# Altium footprint library 28Pins_PCB_Lib.PcbLib: 26 footprints (part 1 of 2)
Each footprint in its own frame and in the unit in brackets; x right, y up, seen from the top. Pads: shape width x height; smd on the part's side, far side on the other; paste and mask are expansions set on the pad; w line width, h text height; cw(c..) or ccw(c..) is an arc to the next point about the centre after c.
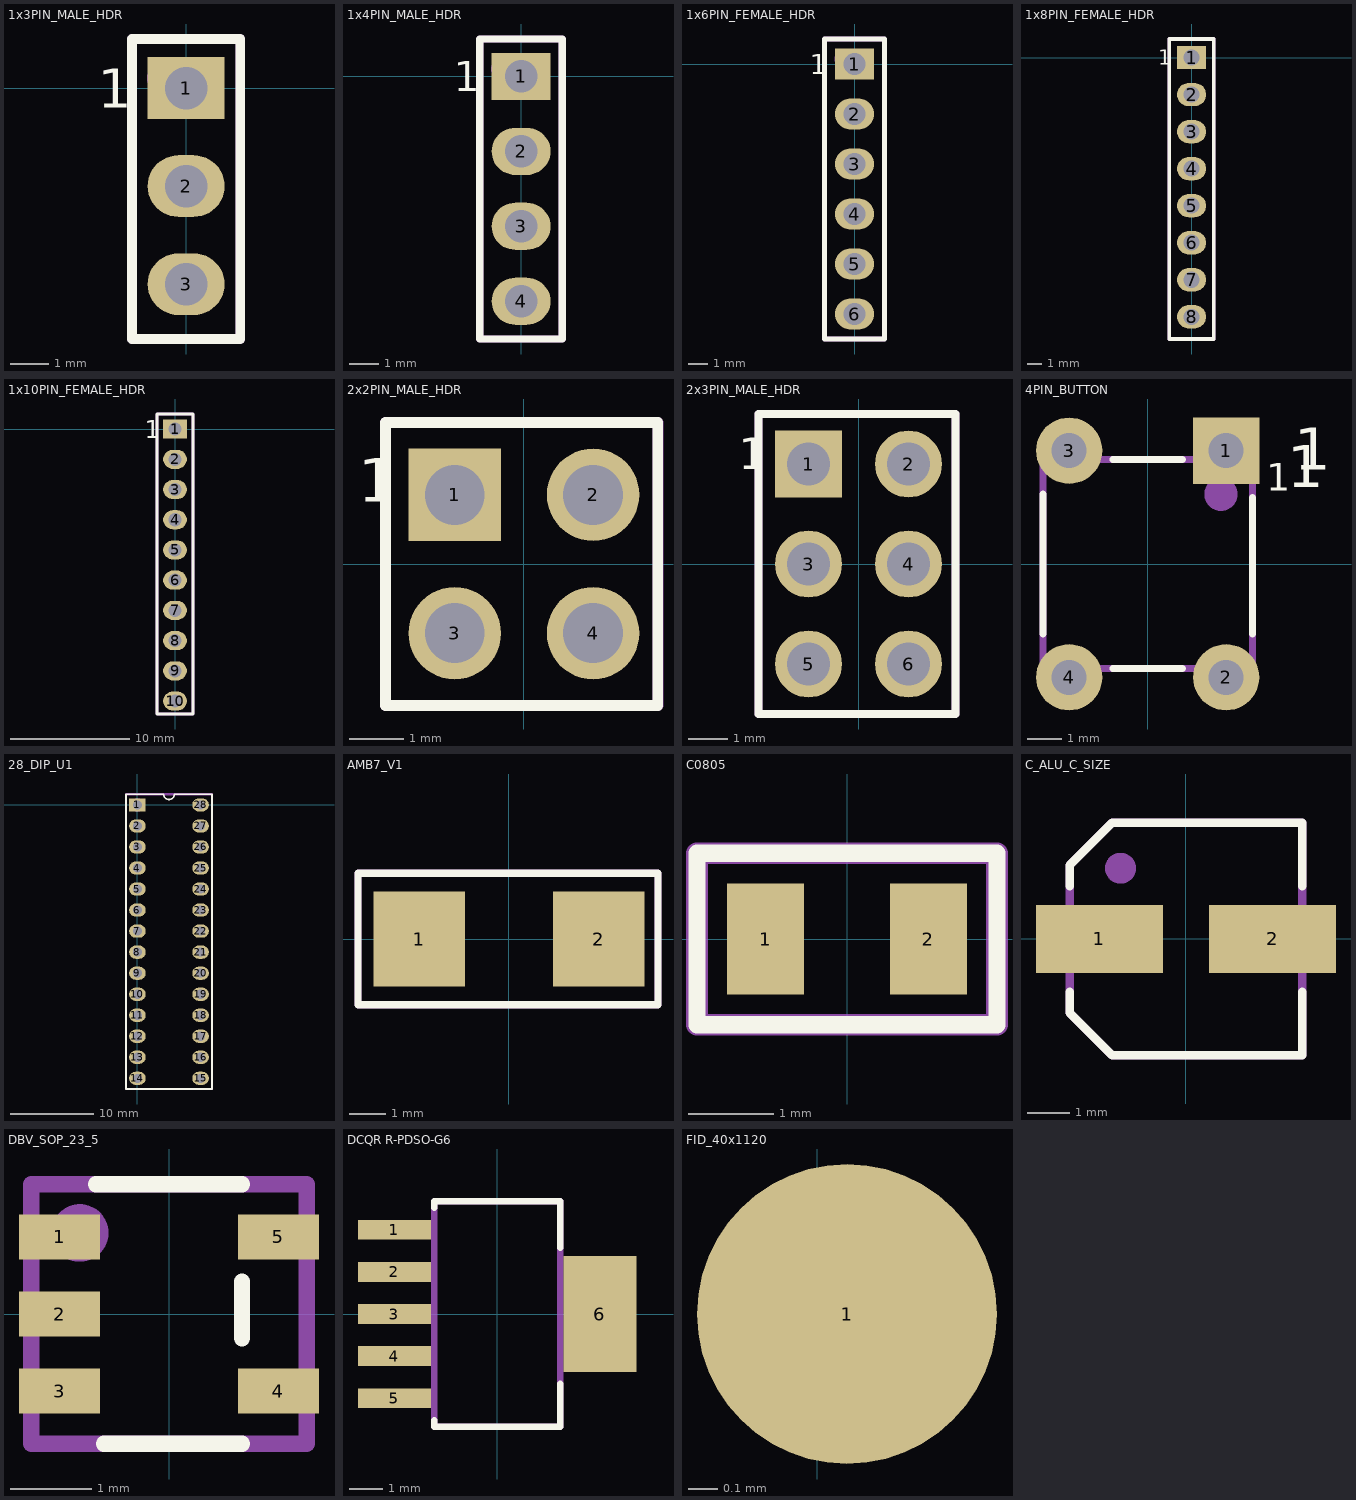
[diagram p0: the footprints below, top view; thin cyan lines are the x and y axes]

## 1x3PIN_MALE_HDR [mm]
pads (3):
  rect 2x1.6 hole 1.1: 1(0,0)
  oval 2x1.6 hole 1.1: 2(0,-2.54) 3(0,-5.08)
Top Overlay:
  lines w0.254: -1.4,-6.5 1.4,-6.5 1.4,1.27 0,1.27 -1.4,1.27 -1.4,-6.5
  text "1" at -2.286,-0.508 h1.02
Mechanical 29:
  circle w0.5: c-0.508,0.254 r0.254
  lines w0.254: -1.4,-6.5 -1.4,1.27 1.4,1.27 1.4,-6.5
  lines w0.26: -1.4,-6.5 1.4,-6.5
  text ".Designator" at 0.6,-4.9 h1
3D body "HDR_1x3_White.stp": height 8.19, standoff -3.31, extent -1.2,-6.21 1.21,1.01

## 1x4PIN_MALE_HDR [mm]
pads (4):
  rect 2x1.6 hole 1.1: 1(0,0)
  oval 2x1.6 hole 1.1: 2(0,-2.54) 3(0,-5.08) 4(0,-7.62)
Top Overlay:
  lines w0.254: -1.4,-8.9 1.4,-8.9 1.4,1.27 0,1.27 -1.4,1.27 -1.4,-8.9
  text "1" at -2.286,-0.508 h1.02
Mechanical 29:
  circle w0.5: c-0.508,0.254 r0.254
  lines w0.254: -1.4,-8.9 1.4,-8.9 1.4,1.27 -1.4,1.27 -1.4,-8.9
  text ".Designator" at 0.4,-4.7 h1.14
3D body "HDR_1x4_White.stp": height 8.19, standoff -3.31, extent -1.21,-8.68 1.2,1.08

## 1x6PIN_FEMALE_HDR [mm]
pads (6):
  rect 2x1.6 hole 1.1: 1(0,0)
  oval 2x1.6 hole 1.1: 2(0,-2.54) 3(0,-5.08) 4(0,-7.62) 5(0,-10.16) 6(0,-12.7)
Top Overlay:
  lines w0.254: -1.524,-13.97 -1.524,1.27 0,1.27 1.524,1.27 1.524,-13.97 -1.524,-13.97
  text "1" at -2.286,-0.508 h1.02
Mechanical 29:
  circle w0.5: c-0.508,0.254 r0.254
  lines w0.254: -1.524,-13.97 -1.524,1.27 1.524,1.27 1.524,-13.97 -1.524,-13.97
  text ".Designator" at 0.508,-8.89 h1.14
3D body "m20-7820646_asm.stp": height 8.31, standoff -3.19, extent -1.25,-14.17 1.25,1.47

## 1x8PIN_FEMALE_HDR [mm]
pads (8):
  rect 2x1.6 hole 1.1: 1(0,0)
  oval 2x1.6 hole 1.1: 2(0,-2.54) 3(0,-5.08) 4(0,-7.62) 5(0,-10.16) 6(0,-12.7) 7(0,-15.24) 8(0,-17.78)
Top Overlay:
  lines w0.254: -1.524,-19.304 -1.524,1.27 0,1.27 1.524,1.27 1.524,-19.304 -1.524,-19.304
  text "1" at -2.286,-0.508 h1.02
Mechanical 29:
  circle w0.5: c-0.508,0.254 r0.254
  lines w0.254: -1.524,-19.304 -1.524,1.27 1.524,1.27 1.524,-19.304 -1.524,-19.304
  text ".Designator" at 0.508,-12.192 h1.5
3D body "m20-7820842_asm.stp": height 8.51, standoff -2.99, extent -1.25,-19.25 1.25,1.47

## 1x10PIN_FEMALE_HDR [mm]
pads (10):
  rect 2x1.6 hole 1.1: 1(0,0)
  oval 2x1.6 hole 1.1: 2(0,-2.54) 3(0,-5.08) 4(0,-7.62) 5(0,-10.16) 6(0,-12.7) 7(0,-15.24) 8(0,-17.78) 9(0,-20.32) 10(0,-22.86)
Top Overlay:
  lines w0.254: -1.524,-23.95 -1.524,1.27 0,1.27 1.524,1.27 1.524,-23.95 -1.524,-23.95
  text "1" at -2.54,-0.762 h1.5
Mechanical 29:
  circle w0.5: c-0.508,0.254 r0.254
  lines w0.254: -1.524,-23.95 1.524,-23.95 1.524,1.27 -1.524,1.27 -1.524,-23.95
  text ".Designator" at 0.508,-12.192 h1.5
3D body "m20-7821046_asm.stp": height 8.51, standoff -2.99, extent -1.23,-24.33 1.27,1.47

## 2x2PIN_MALE_HDR [mm]
pads (4):
  rect 1.7x1.7 hole 1.1: 1(-1.27,1.27)
  round 1.7 hole 1.1: 2(1.27,1.27) 3(-1.27,-1.27) 4(1.27,-1.27)
Top Overlay:
  lines w0.2: -2.54,-2.6 2.46,-2.6 2.46,2.6 -2.54,2.6 -2.54,-2.6
  text "1" at -3.048,1.143 h0.8
Mechanical 29:
  circle w0.508: c-1.27,1.27 r0.18
  lines w0.2: -2.54,-2.6 -2.54,2.6 2.464,2.6 2.464,-2.6 -2.54,-2.6
  text ".Designator" at 0.325,-0.275 h0.8
3D body "961204-6404-XX.stp": height 8.01, standoff -3.29, extent -2.556,-2.505 2.524,2.495

## 2x3PIN_MALE_HDR [mm]
pads (6):
  rect 1.7x1.7 hole 1.1: 1(-1.27,2.54)
  round 1.7 hole 1.1: 2(1.27,2.54) 3(-1.27,0) 4(1.27,0) 5(-1.27,-2.54) 6(1.27,-2.54)
Top Overlay:
  lines w0.2: -2.54,-3.81 -2.54,3.81 2.46,3.81 2.46,-3.81 -2.54,-3.81
  text "1" at -3.048,2.413 h0.8
Mechanical 29:
  circle w0.508: c-1.27,2.54 r0.18
  lines w0.2: -2.54,-3.81 2.464,-3.81 2.464,3.81 -2.54,3.81 -2.54,-3.81
  text ".Designator" at -1.143,-0.254 h0.8
3D body "961206-6404-XX.stp": height 8.01, standoff -3.29, extent -2.54,-3.81 2.46,3.81

## 4PIN_BUTTON [mm]
pads (4):
  rect 1.9x1.9 hole 1: 1(2.25,3.25)
  round 1.9 hole 1: 2(2.25,-3.25) 3(-2.25,3.25) 4(-2.25,-3.25)
Top Overlay:
  lines w0.2: -3,-2 -3,2 ; -1,-3 1,-3 ; -1,3 1,3 ; 3,-2 3,1.9
  text "1" at 4.2,2.7 h1.2
  text "1" at 4,2.2 h1.2
  text "1" at 3.4,2.1 h0.8
Mechanical 29:
  circle w0.508: c2.1,2 r0.224
  lines w0.2: -3,-3 -3,3 3,3 3,-3 -3,-3
  text ".Designator" at 0.5,-0.6 h1.2
3D body "FSM4JLH(1825910-5).step": height 5, standoff -3.51, extent -2.995,-3.899 2.995,3.9

## 28-DIP_SCKT [mm]
3D body "dil_socket.stp": height 4.2, standoff -3.17, extent -1.24,-34.26 8.86,1.24

## 28_DIP_U1 [mm]
pads (28):
  rect 2x1.6 hole 1.1: 1(0,0)
  oval 2x1.6 hole 1.1: 2(0,-2.54) 3(0,-5.08) 4(0,-7.62) 5(0,-10.16) 6(0,-12.7) 7(0,-15.24) 8(0,-17.78) 9(0,-20.32) 10(0,-22.86) 11(0,-25.4) 12(0,-27.94) 13(0,-30.48) 14(0,-33.02) 15(7.62,-33.02) 16(7.62,-30.48) 17(7.62,-27.94) 18(7.62,-25.4) 19(7.62,-22.86) 20(7.62,-20.32) 21(7.62,-17.78) 22(7.62,-15.24) 23(7.62,-12.7) 24(7.62,-10.16) 25(7.62,-7.62) 26(7.62,-5.08) 27(7.62,-2.54) 28(7.62,0)
Top Overlay:
  lines w0.2: -1.39,1.27 -1.39,-34.31 9.01,-34.31 9.01,1.27 ; -1.39,1.29 3.175,1.29 ccw(c3.81,1.29) 4.445,1.29 9.01,1.29
Mechanical 29:
  circle w0.8: c0,0 r0.405
  lines w0.254: -1.39,-34.31 -1.39,1.29 9.01,1.29 9.01,-34.31 -1.39,-34.31
  text ".Designator" at 4.11,-17.11 h2
3D body "DIP-28P-M04.step": height 8.4, standoff 0.2, extent -0.125,-34.21 7.745,1.19

## AMB7_V1 [mm]
pads (2):
  rect 2.5x2.6 smd: 1(-2.45,0) 2(2.45,0)
Top Overlay:
  lines w0.2: -4.125,-1.8 4.075,-1.8 4.075,1.8 -4.125,1.8 -4.125,-1.8
Mechanical 29:
  lines w0.2: -4.125,-1.8 4.075,-1.8 4.075,1.8 -4.125,1.8 -4.125,-1.8
  text ".Designator" at -1.4,-0.225 h0.8
3D body "ABM7.STEP": height 1.41, standoff 0.01, extent -2.975,-1.7 3.019,1.805

## C0805 [mm]
pads (2):
  rect 0.9x1.3 smd: 1(-0.95,0) 2(0.95,0)
Top Overlay:
  lines w0.2: -1.75,-1 -1.75,1 1.75,1 1.75,-1 -1.75,-1
Mechanical 29:
  lines w0.254: -1.75,-1 1.75,-1 1.75,1 -1.75,1 -1.75,-1
  text ".Designator" at -0.5,0 h0.5
3D body "CAPC2012X95N EIA 0805.step": height 1.46, standoff 0.51, extent -1,-0.6 1,0.6
3D body "CAPC2012X95N EIA 0805.step": height 0.96, standoff 0.01, extent -1,-0.6 1,0.6

## C_ALU_C_SIZE [mm]
pads (2):
  rect 3x1.6 smd: 1(-2.05,0) 2(2.05,0)
Top Overlay:
  lines w0.2: -2.75,-1.25 -2.75,-1.75 -1.75,-2.75 -1.5,-2.75 2.75,-2.75 2.75,-1.25 ; -2.75,1.25 -2.75,1.75 -1.75,2.75 2.75,2.75 2.75,1.25
Mechanical 29:
  circle w0.508: c-1.55,1.675 r0.112
  lines w0.2: -2.75,-1.75 -2.75,-1.25 -2.75,1.75 -1.75,2.75 2.75,2.75 2.75,-2.75 -1.75,-2.75 -2.75,-1.75
  text ".Designator" at -0.775,-0.2 h1
3D body "capacitor size C.step": height 5.41, standoff -0.01, extent -2.95,-2.65 2.95,2.65

## DBV_SOP_23_5 [mm]
pads (5):
  rect 1x0.55 smd: 1(-1.35,0.95) 2(-1.35,0) 3(-1.35,-0.95) 4(1.35,-0.95) 5(1.35,0.95)
Top Overlay:
  lines w0.2: -0.9,1.6 0.9,1.6 ; -0.8,-1.6 0.9,-1.6 ; 0.9,-0.3 0.9,0.4
Mechanical 29:
  circle w0.508: c-1.1,1 r0.1
  lines w0.2: -1.7,-1.6 -1.7,1.6 1.7,1.6 1.7,-1.6 -1.7,-1.6
  text ".Designator" at 0,-0.1 h0.6
3D body "DBV.step": height 1.6, standoff -0.02, extent -1.514,-1.525 1.514,1.525

## DCQR R-PDSO-G6 [mm]
pads (6):
  rect 2.2x0.6 smd: 1(-3.1,2.54) 2(-3.1,1.27) 3(-3.1,0) 4(-3.1,-1.27) 5(-3.1,-2.54)
  rect 2.2x3.5 smd: 6(3.1,0)
Top Overlay:
  lines w0.2: -1.9,-3.2 -1.9,-3.4 1.9,-3.4 1.9,-2.1 ; -1.9,3.2 -1.9,3.4 1.9,3.4 1.9,2
Mechanical 29:
  lines w0.2: -1.9,-3.4 -1.9,3.4 1.9,3.4 1.9,-3.4 -1.9,-3.4
  text ".Designator" at -0.5,-0.1 h1.2
3D body "TPS73701DCQ.step": height 1.79, standoff -0.01, extent -3.63,-3.275 3.63,3.275

## FID_40x1120 [mm]
pads (1):
  round 1.016 smd paste-40 mask+1.016: 1(0.1,-2.2)